# EAGLE library part SRX_BREAKOUT_PADS (library jack_specialty)
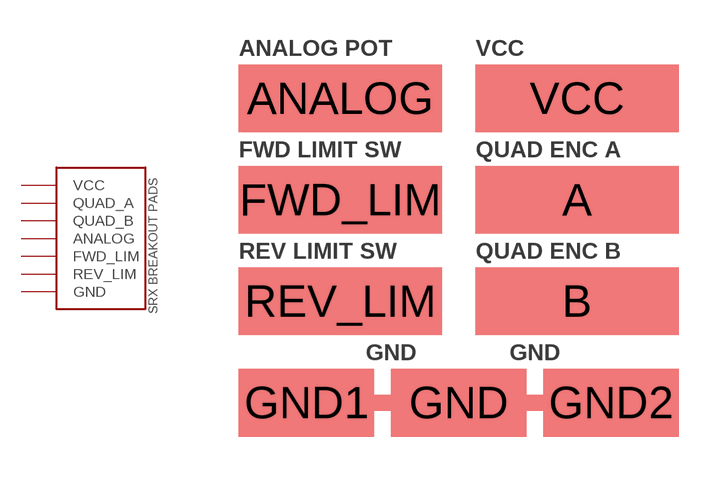
[diagram p0: symbol with the pads of SRX_BREAKOUT_PADS; footprint SRX_BREAKOUT_PADS]

Designator prefix -

## SRX_BREAKOUT_PADS  [SRX_BREAKOUT_PADS]
A  QUAD_A
ANALOG  ANALOG
B  QUAD_B
FWD_LIM  FWD_LIM
GND  GND
GND1  GND
GND2  GND
REV_LIM  REV_LIM
VCC  VCC

## Footprint SRX_BREAKOUT_PADS (pad centres in mm)
smd 7.62 x 2.54: A 4.445,1.905; ANALOG -4.445,5.715; B 4.445,-1.905; FWD_LIM -4.445,1.905; REV_LIM -4.445,-1.905; VCC 4.445,5.715
smd 5.08 x 2.54: GND 0,-5.715; GND1 -5.715,-5.715; GND2 5.715,-5.715